# Altium footprint library 3403016624.PcbLib: 1 footprints
Each footprint in its own frame and in the unit in brackets; x right, y up, seen from the top. Pads: shape width x height; smd on the part's side, far side on the other; paste and mask are expansions set on the pad; w line width, h text height; cw(c..) or ccw(c..) is an arc to the next point about the centre after c.
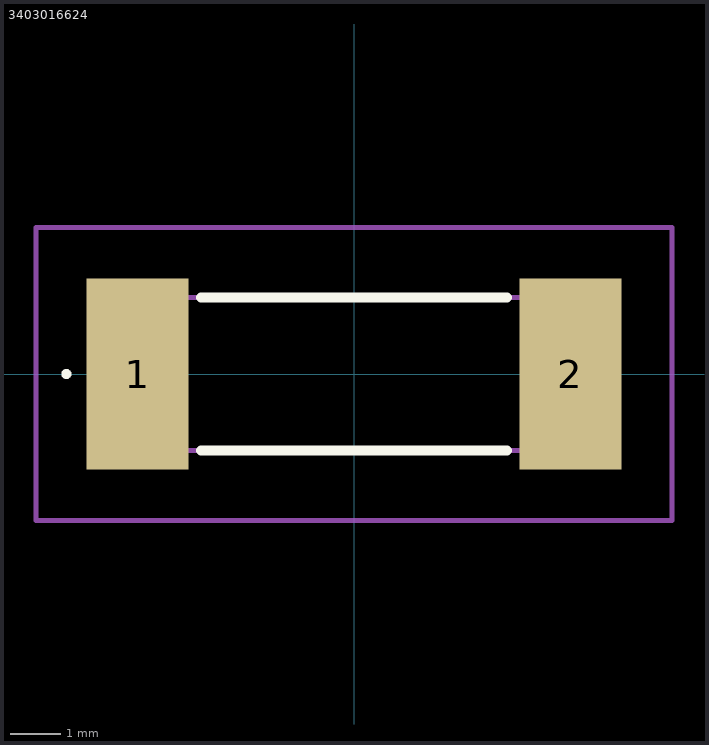
[diagram p0: the footprint, top view; thin cyan lines are the x and y axes]

## 3403016624 [mm]
pads (2):
  rect 2x3.75 smd: 1(-4.25,0) 2(4.25,0)
Top Overlay:
  lines w0.1: -5.7,0 cw(c-5.65,0) -5.6,0 ; -5.7,0 -5.7,0 ; -5.7,0 ccw(c-5.65,0) -5.6,0 ; -5.6,0 -5.6,0
  lines w0.2: -3,-1.5 3,-1.5 ; -3,1.5 3,1.5
Mechanical 15:
  lines w0.1: -5.05,-1.5 5.05,-1.5 5.05,1.5 -5.05,1.5 -5.05,-1.5
Mechanical 20:
  lines w0.1: -6.25,-2.875 6.25,-2.875 6.25,2.875 -6.25,2.875 -6.25,-2.875